# Altium schematic symbol library BMP581.SchLib: 1 symbol
Pins are listed as number, name and electrical type; pins without a type are passive.

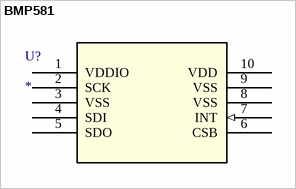
[diagram p0: symbol BMP581]

## BMP581
designator U?
No Description Available; Mfr_Name: Bosch Sensortec; RefDes: RefDes; Type: Type
footprint QFN10_BMP581_BOS-M
pins: 1 VDDIO (power), 2 SCK, 3 VSS (power), 4 SDI, 5 SDO, 6 CSB, 7 INT (in), 8 VSS (power), 9 VSS (power), 10 VDD (power)